# Altium schematic symbol library 4.电源芯片原理库.SchLib: 8 symbols
Pins are listed as number, name and electrical type; pins without a type are passive.

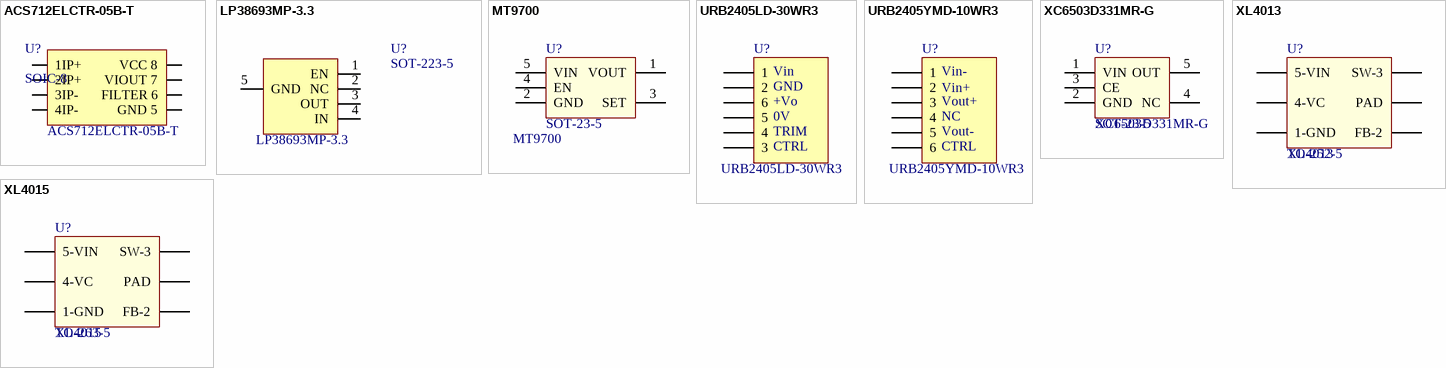
[diagram p0: symbols ACS712ELCTR-05B-T to XL4015]

## ACS712ELCTR-05B-T
designator U?, comment SOIC-8  value ACS712ELCTR-05B-T
Hall Effect-Based Linear Current Sensor
footprint SOIC-8
pins: 1 1IP+, 2 2IP+, 3 3IP-, 4 4IP-, 5 GND 5, 6 FILTER 6, 7 VIOUT 7, 8 VCC 8

## LP38693MP-3.3
designator U?, comment SOT-223-5  value LP38693MP-3.3
footprint SOT-223-5 (SOT223)
pins: 1 EN, 2 NC, 3 OUT, 4 IN, 5 GND

## MT9700
designator U?, comment SOT-23-5  value MT9700
80m?,Adjustable Fast Response  Current-Limited Power-Distribution Switch
footprint SOT-23-5 (SOT23, 5-Leads, Body 3.1x3.0mm (max), Pitch 0.95mm, IPC Medium Density)
pins: 1 VOUT, 2 GND, 3 SET, 4 EN, 5 VIN

## URB2405LD-30WR3
designator U?, comment value URB2405LD-30WR3  (hidden comment: URB_LD-30WR3)
footprint URB_LD-30WR3
pins: 1, 2, 3, 4, 5, 6
text: Vin; GND; +Vo; 0V; TRIM; CTRL

## URB2405YMD-10WR3
designator U?
Value: URB2405YMD-10WR3
footprint URB2405YMD-10WR3
pins: 1, 2, 3, 4, 5, 6
text: Vin-; Vin+; Vout+; NC; Vout-; CTRL

## XC6503D331MR-G
designator U?, comment SOT-23-5  value XC6503D331MR-G
Capacitor-Less 500mA Low Power Consumption High Speed LDO Regulator
footprint SOT-23-5 (SOT23, 5-Leads, Body 3.1x3.0mm (max), Pitch 0.95mm, IPC Medium Density)
pins: 1 VIN, 2 GND, 3 CE, 4 NC, 5 OUT

## XL4013
designator U?, comment TO-252-5  value XL4013
4A 180KHz 36V Buck DC to DC Converter
footprint TO-252-5L-TB
pins: 0 PAD, 1 1-GND, 2 FB-2, 3 SW-3, 4 4-VC, 5 5-VIN

## XL4015
designator U?, comment TO-263-5  value XL4015
5A 180KHz 36V Buck DC to DC Converter
footprint TO-263-5L-TB
pins: 0 PAD, 1 1-GND, 2 FB-2, 3 SW-3, 4 4-VC, 5 5-VIN